# Altium footprint library SMTC-TSW-102-07-S-S.PcbLib: 1 footprints
Each footprint in its own frame and in the unit in brackets; x right, y up, seen from the top. Pads: shape width x height; smd on the part's side, far side on the other; paste and mask are expansions set on the pad; w line width, h text height; cw(c..) or ccw(c..) is an arc to the next point about the centre after c.
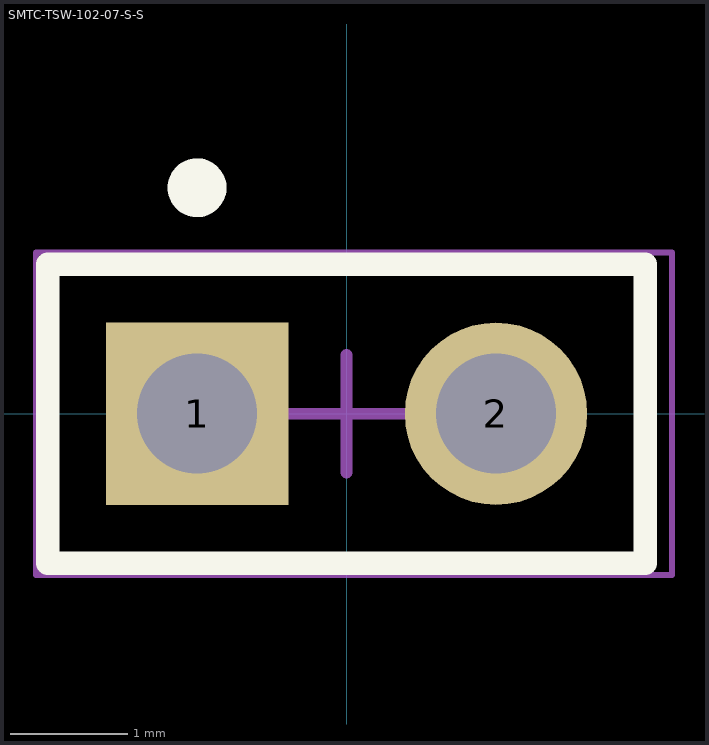
[diagram p0: the footprint, top view; thin cyan lines are the x and y axes]

## SMTC-TSW-102-07-S-S [mm] "Header, 2-Leads, Body 5.08x2.54mm, Pitch 2.54mm"
height 8.38
pads (2):
  rect 1.55x1.55 hole 1.02: 1(-1.27,0)
  round 1.55 hole 1.02: 2(1.27,0)
Top Overlay:
  circle w0.25: c-1.27,1.92 r0.125
  lines w0.2: -2.54,-1.27 -2.54,1.27 2.54,1.27 2.54,-1.27 -2.54,-1.27
Mechanical 13:
  lines w0.1: -2.54,-1.27 -2.54,1.27 2.54,1.27 2.54,-1.27 -2.54,-1.27
Mechanical 15:
  lines w0.05: -2.64,-1.37 2.767,-1.37 2.767,1.37 -2.64,1.37 -2.64,-1.37
  lines w0.1: -0.5,0 0.5,0 ; 0,-0.5 0,0.5
3D body "TSW-102-07-S-S.stp": height 8.38, standoff -2.54, extent -2.54,-1.27 2.667,1.27